# Altium schematic symbol library MaximDallas.SchLib: 1 symbol
Pins are listed as number, name and electrical type; pins without a type are passive.

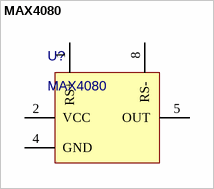
[diagram p0: symbol MAX4080]

## MAX4080
designator U?
Value: MAX4080
pins: 1 RS+, 2 VCC, 4 GND, 5 OUT, 8 RS-